# Altium integrated library MCP2140A-I_SO.IntLib: 1 symbol
Pins are listed as number, name and electrical type; pins without a type are passive.

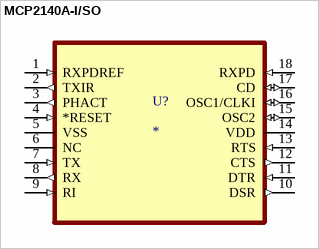
[diagram p0: symbol MCP2140A-I/SO]

## MCP2140A-I/SO
designator U?
IrDA Stack Controller 9600Bd SSOP20 | Microchip Technology Inc. MCP2140A-I/SS; SnapEDA_Link: https://www.snapeda.com/parts/MCP2140A-I/SS/Microchip+Technology/view-part/?ref=snap; Package: SSOP-20 Microchip; Value: *; MF: Microchip; MP: MCP2140A-I/SS; Check_prices: https://www.snapeda.com/parts/MCP2140A-I/SS/Microchip+Technology/view-part/?ref=eda
footprint SOIC127P1030X265-18N
pins: 1 RXPDREF (in), 2 TXIR (out), 3 PHACT (out), 4 *RESET (in), 5 VSS, 6 NC, 7 TX (in), 8 RX (out), 9 RI (in), 10 DSR (out), 11 DTR (in), 12 CTS (out), 13 RTS (in), 14 VDD (power), 15 OSC2 (io), 16 OSC1/CLKI (io), 17 CD (io), 18 RXPD (in)